# Altium footprint library E 二极管.PcbLib: 24 footprints (part 2 of 2)
Each footprint in its own frame and in the unit in brackets; x right, y up, seen from the top. Pads: shape width x height; smd on the part's side, far side on the other; paste and mask are expansions set on the pad; w line width, h text height; cw(c..) or ccw(c..) is an arc to the next point about the centre after c.
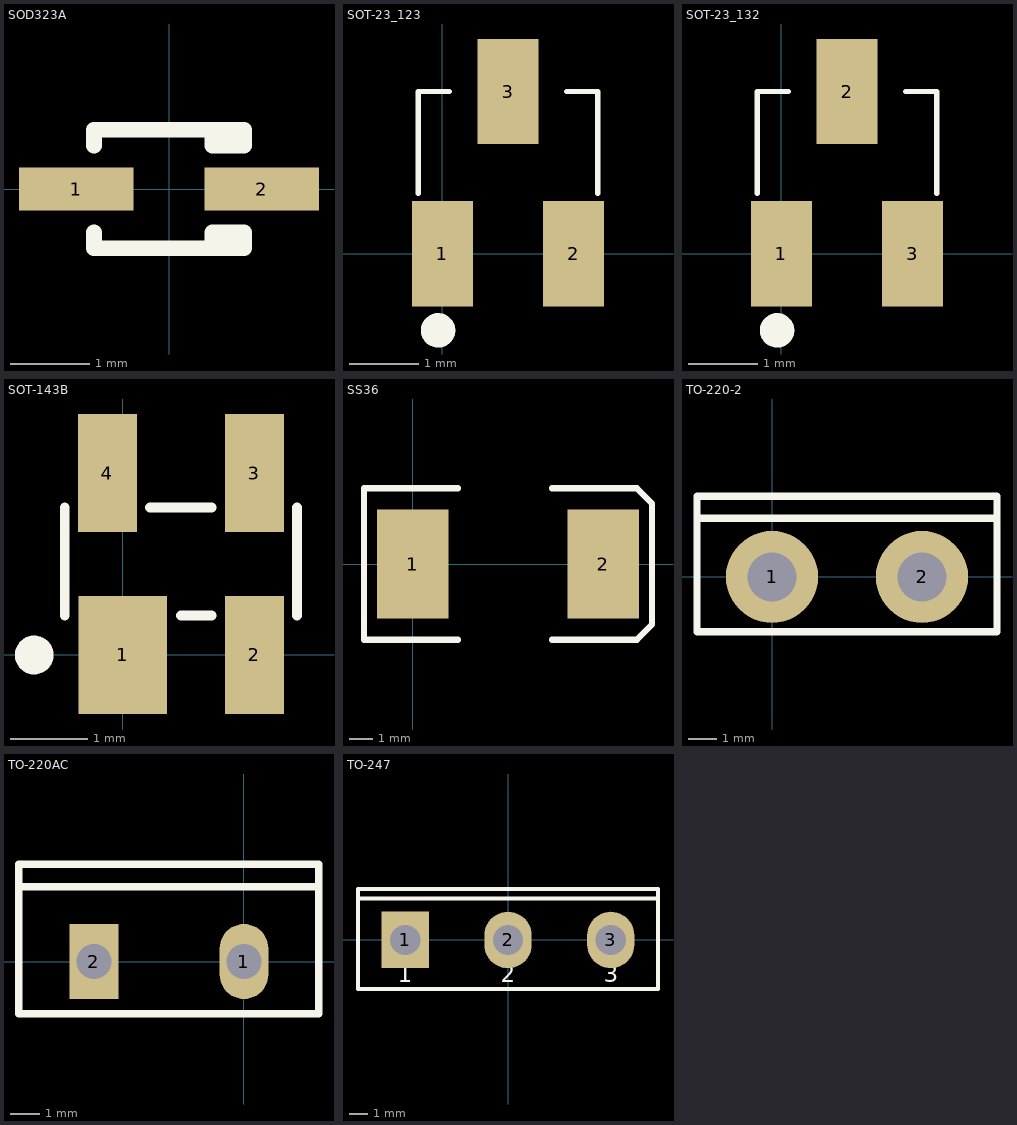
[diagram p1: the footprints below, top view; thin cyan lines are the x and y axes]

## SOD323A [mm] "SOD-323/SC-76; 2 Leads; Body 1.7 x 1.3 mm, (LxW)"
height 1.1
pads (2):
  rect 1.45x0.55 smd: 1(-1.175,0) 2(1.175,0)
Top Overlay:
  lines w0.2: -0.95,-0.55 -0.95,-0.75 0.95,-0.75 0.95,-0.55 0.55,-0.55 0.55,-0.75 ; -0.95,0.55 -0.95,0.75 0.95,0.75 0.95,0.55 0.55,0.55 0.55,0.75

## SOT-23_123 [mil]
pads (3):
  rect 35x60 smd: 1(0,0) 2(74.8,0) 3(37.4,92.52)
Top Overlay:
  circle w9.84: c-2.52,-43.74 r4.92
  lines w3: -13.78,34.45 -13.78,92.52 3.94,92.52 ; 70.87,92.52 88.58,92.52 88.58,34.45

## SOT-23_132 [mil]
pads (3):
  rect 35x60 smd: 1(0,0) 2(37.4,92.52) 3(74.8,0)
Top Overlay:
  circle w9.84: c-2.52,-43.74 r4.92
  lines w3: -13.78,34.45 -13.78,92.52 3.94,92.52 ; 70.87,92.52 88.58,92.52 88.58,34.45

## SOT-143B [mil]
pads (4):
  rect 45x60 smd: 1(0,0)
  rect 30x60 smd: 2(66.93,0) 3(66.93,92.52) 4(-7.87,92.52)
Top Overlay:
  circle w9.84: c-45,0 r4.92
  lines w5: -29.53,20 -29.53,75 ; 13.78,75 45.28,75 ; 29.53,20 45.28,20 ; 88.58,20 88.58,75

## SS36 [mil] "肖特基二极管"
height 413.39
pads (2):
  rect 118.11x180 smd: 1(0,0) 2(315,0)
Top Overlay:
  lines w10: 75,-125 -80,-125 -80,125 75,125 ; 230,-125 370,-125 395,-100 395,100 370,125 230,125

## TO-220-2 [mm]
pads (2):
  round 3.2 hole 1.7: 1(0,0) 2(5.2,0)
Top Overlay:
  lines w0.254: -2.54,2.032 7.747,2.032 ; -2.6,-1.9 -2.6,2.8 7.8,2.8 7.8,-1.9 -2.6,-1.9

## TO-220AC [mil] "TO"
pads (2):
  oval 65x100 hole 47: 1(0,0)
  rect 65x100 hole 47: 2(-200,0)
Top Overlay:
  lines w10: -300,100 100,100 ; -300,-70 -300,130 100,130 100,-70 -300,-70

## TO-247 [mm] "SIP with Mounting Hole; 3 Leads; Body 20 x 15.6 x 5 mm (typ); Pitch 5.45 mm"
height 24.6
pads (3):
  rect 2.5x3 hole 1.6: 1(-5.45,0)
  oval 2.5x3 hole 1.6: 2(0,0) 3(5.45,0)
Top Overlay:
  lines w0.2: -7.95,2.2 7.95,2.2 ; -7.95,-2.6 7.95,-2.6 7.95,2.7 -7.95,2.7 -7.95,-2.6
  text "1" at -5.842,-2.54 h1.52
  text "2" at -0.381,-2.54 h1.52
  text "3" at 5.08,-2.54 h1.52